# EAGLE library part 61303425721 (library Eagle_BOARD-TO-BOARD_CONNECTORS (rev18b))
WR-PHD 2.54mm Dual Socket Header Bottom Entry, 34 Pins =>Code : Con_BTB_SHD_2.54_2_61303425721 <http://katalog.we-online.de/media/images/eican/Con_BTB_SHD_2.54_2_6130xx25721_pf2.jpg> Details see: http://katalog.we-online.de/en/em/613_0xx_257_21 Created 2014-05-30, Karrer Zheng 2014 (C) Würth Elektronik
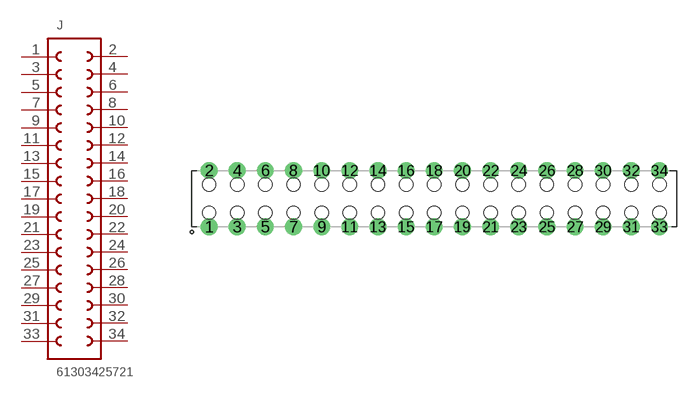
[diagram p162: symbol with the pads of 61303425721; footprint 61303425721]

Designator prefix J

## 61303425721  [61303425721]
1  1  pas
2  34  pas
3  2  pas
4  33  pas
5  3  pas
6  32  pas
7  4  pas
8  31  pas
9  5  pas
10  30  pas
11  6  pas
12  29  pas
13  7  pas
14  28  pas
15  8  pas
16  27  pas
17  9  pas
18  26  pas
19  10  pas
20  25  pas
21  11  pas
22  24  pas
23  12  pas
24  23  pas
25  13  pas
26  22  pas
27  14  pas
28  21  pas
29  15  pas
30  20  pas
31  16  pas
32  19  pas
33  17  pas
34  18  pas

## Footprint 61303425721 (pad centres in mm)
WR-PHD 2.54mm Dual Socket Header Bottom Entry, 34 Pins
drill 1 pad 1.4: 1 -20.32,-2.54; 2 -20.32,2.54; 3 -17.78,-2.54; 4 -17.78,2.54; 5 -15.24,-2.54; 6 -15.24,2.54; 7 -12.7,-2.54; 8 -12.7,2.54; 9 -10.16,-2.54; 10 -10.16,2.54; 11 -7.62,-2.54; 12 -7.62,2.54; 13 -5.08,-2.54; 14 -5.08,2.54; 15 -2.54,-2.54; 16 -2.54,2.54; 17 0,-2.54; 18 0,2.54; 19 2.54,-2.54; 20 2.54,2.54; 21 5.08,-2.54; 22 5.08,2.54; 23 7.62,-2.54; 24 7.62,2.54; 25 10.16,-2.54; 26 10.16,2.54; 27 12.7,-2.54; 28 12.7,2.54; 29 15.24,-2.54; 30 15.24,2.54; 31 17.78,-2.54; 32 17.78,2.54; 33 20.32,-2.54; 34 20.32,2.54
hole 1.2 at -20.32,1.27
hole 1.2 at -17.78,1.27
hole 1.2 at -17.78,-1.27
hole 1.2 at -20.32,-1.27
hole 1.2 at -15.24,-1.27
hole 1.2 at -15.24,1.27
hole 1.2 at -12.7,1.27
hole 1.2 at -12.7,-1.27
hole 1.2 at -10.16,1.27
hole 1.2 at -10.16,-1.27
hole 1.2 at -7.62,-1.27
hole 1.2 at -7.62,1.27
hole 1.2 at -5.08,1.27
hole 1.2 at -5.08,-1.27
hole 1.2 at -2.54,-1.27
hole 1.2 at -2.54,1.27
hole 1.2 at 0,-1.27
hole 1.2 at 0,1.27
hole 1.2 at 2.54,1.27
hole 1.2 at 2.54,-1.27
hole 1.2 at 5.08,-1.27
hole 1.2 at 5.08,1.27
hole 1.2 at 7.62,-1.27
hole 1.2 at 7.62,1.27
hole 1.2 at 10.16,-1.27
hole 1.2 at 10.16,1.27
hole 1.2 at 12.7,-1.27
hole 1.2 at 12.7,1.27
hole 1.2 at 15.24,1.27
hole 1.2 at 15.24,-1.27
hole 1.2 at 17.78,1.27
hole 1.2 at 17.78,-1.27
hole 1.2 at 20.32,-1.27
hole 1.2 at 20.32,1.27